# EAGLE library part 816-111 (library con-wago_816)
Serie 816, grau / Series 816, gray Polzahl / Pole No.: 11 Rastermaß / Pitch: 5 mm Bemessungsspannung / Rated Voltage: 320 V Nennstrom / Nominal Current: 14 A Anschlusstechnik / Connection Technology: Push-in CAGE CLAMP® Lötstiftlänge: / Solder Pin Length: 3.5 mm Leitereinführung (zur Platine) / Conductor entry angle (to PCB): 45 ° Farbe / Color: 2-Leiter-Leiterplattenklemme; 1,5 mm2; Rastermaß 5 mm; 11-polig; Push-in CAGE CLAMP® / 2-conductor PCB terminal block; 1.5 mm2; Pin spacing 5 mm; 11-pole; Push-in CAGE CLAMP® Stand: 01.01.2017. Die jeweils aktuellen Daten zu diesem Artikel finden Sie in unserem Produktkatalog, den Sie unter www.wago.com einsehen können. As of: 01/01/2017. Please find the newest data for this article in our product catalogue, which can be viewed under www.wago.com.
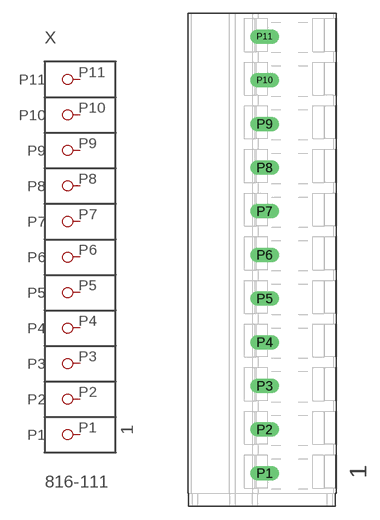
[diagram p5: symbol with the pads of P-816-111; footprint P-816-111]

Designator prefix X

## 816-111  [P-816-111]
P1  P1
P2  P2
P3  P3
P4  P4
P5  P5
P6  P6
P7  P7
P8  P8
P9  P9
P10  P10
P11  P11

## Footprint P-816-111 (pad centres in mm)
drill 1.1 long: P1 0.3,-24.45; P2 0.3,-19.45; P3 0.3,-14.45; P4 0.3,-9.45; P5 0.3,-4.45; P6 0.3,0.55; P7 0.3,5.55; P8 0.3,10.55; P9 0.3,15.55; P10 0.3,20.55; P11 0.3,25.55